# Altium footprint library Microcontroladores.PcbLib: 2 footprints
Each footprint in its own frame and in the unit in brackets; x right, y up, seen from the top. Pads: shape width x height; smd on the part's side, far side on the other; paste and mask are expansions set on the pad; w line width, h text height; cw(c..) or ccw(c..) is an arc to the next point about the centre after c.
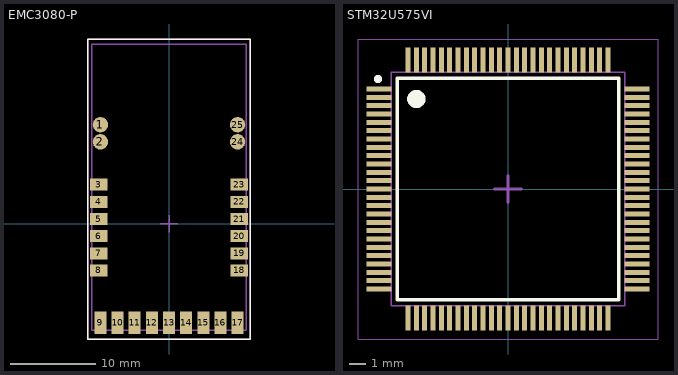
[diagram p0: the footprints below, top view; thin cyan lines are the x and y axes]

## EMC3080-P [mm]
pads (25):
  round 1.8 smd mask+0.07: 1(-8,11.55) 2(-8,9.55) 24(8,9.55) 25(8,11.55)
  rect 2x1.4 smd mask+0.15: 3(-8.2,4.55) 4(-8.2,2.55) 5(-8.2,0.55) 6(-8.2,-1.45) 7(-8.2,-3.45) 8(-8.2,-5.45) 18(8.2,-5.45) 19(8.2,-3.45) 20(8.2,-1.45) 21(8.2,0.55) 22(8.2,2.55) 23(8.2,4.55)
  rect 1.4x2.6 smd mask+0.15: 9(-8,-11.55) 10(-6,-11.55) 11(-4,-11.55) 12(-2,-11.55) 13(0,-11.55) 14(2,-11.55) 15(4,-11.55) 16(6,-11.55) 17(8,-11.55)
Top Overlay:
  lines w0.15: -9.5,-13.45 9.5,-13.45 9.5,21.55 -9.5,21.55 -9.5,-13.45
Top Courtyard (Mech15):
  lines w0.15: -1,0 1,0 ; 0,-1 0,1 ; -9.5,-13.45 9.5,-13.45 9.5,21.55 -9.5,21.55 -9.5,-13.45 ; -9,-12.45 9,-12.45 9,20.95 -9,20.95 -9,-12.45
  text "'.Designator'" at -7.45,16.067 h1.25

## STM32U575VI [mm] "Ultra-low-power with FPU Arm Cortex-M33 MCU with TrustZone, 160 MHz with 2 Mbytes of Flash memory"
pads (100):
  rect 1.475x0.3 smd mask+0.051: 1(-7.738,6) 2(-7.738,5.5) 3(-7.738,5) 4(-7.738,4.5) 5(-7.738,4) 6(-7.738,3.5) 7(-7.738,3) 8(-7.738,2.5) 9(-7.738,2) 10(-7.738,1.5) 11(-7.738,1) 12(-7.738,0.5) 13(-7.738,0) 14(-7.738,-0.5) 15(-7.738,-1) 16(-7.738,-1.5) 17(-7.738,-2) 18(-7.738,-2.5) 19(-7.738,-3) 20(-7.738,-3.5) 21(-7.738,-4) 22(-7.738,-4.5) 23(-7.738,-5) 24(-7.738,-5.5) 25(-7.738,-6) 51(7.738,-6) 52(7.738,-5.5) 53(7.738,-5) 54(7.738,-4.5) 55(7.738,-4) 56(7.738,-3.5) 57(7.738,-3) 58(7.738,-2.5) 59(7.738,-2) 60(7.738,-1.5) 61(7.738,-1) 62(7.738,-0.5) 63(7.738,0) 64(7.738,0.5) 65(7.738,1) 66(7.738,1.5) 67(7.738,2) 68(7.738,2.5) 69(7.738,3) 70(7.738,3.5) 71(7.738,4) 72(7.738,4.5) 73(7.738,5) 74(7.738,5.5) 75(7.738,6)
  rect 0.3x1.475 smd mask+0.051: 26(-6,-7.738) 27(-5.5,-7.738) 28(-5,-7.738) 29(-4.5,-7.738) 30(-4,-7.738) 31(-3.5,-7.738) 32(-3,-7.738) 33(-2.5,-7.738) 34(-2,-7.738) 35(-1.5,-7.738) 36(-1,-7.738) 37(-0.5,-7.738) 38(0,-7.738) 39(0.5,-7.738) 40(1,-7.738) 41(1.5,-7.738) 42(2,-7.738) 43(2.5,-7.738) 44(3,-7.738) 45(3.5,-7.738) 46(4,-7.738) 47(4.5,-7.738) 48(5,-7.738) 49(5.5,-7.738) 50(6,-7.738) 76(6,7.738) 77(5.5,7.738) 78(5,7.738) 79(4.5,7.738) 80(4,7.738) 81(3.5,7.738) 82(3,7.738) 83(2.5,7.738) 84(2,7.738) 85(1.5,7.738) 86(1,7.738) 87(0.5,7.738) 88(0,7.738) 89(-0.5,7.738) 90(-1,7.738) 91(-1.5,7.738) 92(-2,7.738) 93(-2.5,7.738) 94(-3,7.738) 95(-3.5,7.738) 96(-4,7.738) 97(-4.5,7.738) 98(-5,7.738) 99(-5.5,7.738) 100(-6,7.738)
Top Overlay:
  circle w0.3: c-7.8,6.6 r0.1
  circle w0.6: c-5.5,5.4 r0.25
  lines w0.2: -6.65,-6.65 -6.65,6.65 6.65,6.65 6.65,-6.65 -6.65,-6.65
Top Courtyard (Mech15):
  lines w0.05: -9,-9 9,-9 9,9 -9,9 -9,-9
  lines w0.1: -7,-7 7,-7 7,7 -7,7 -7,-7
  lines w0.2: -0.8,0 0.8,0 ; 0,-0.8 0,0.8
  text "'.Designator'" at -6.1,4.233 h1
3D body "LQFP-100_STM.step": height 1.6, standoff 0, extent -8.103,-8.103 8.103,8.103